# EAGLE library part AS-ITM-00091 (library tinycircuits)
DAC 12BIT SGL W/SPI 8MSOP
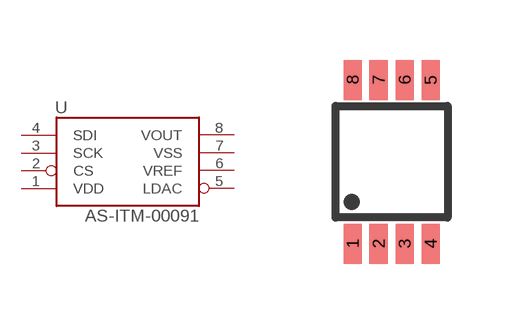
[diagram p36: symbol with the pads of MSOP8; footprint MSOP8]

Designator prefix U

## AS-ITM-00091 (PARTNO: AS-ITM-00091; VALUE: MCP4921-E/MS)  [MSOP8]
1  VDD
2  CS
3  SCK
4  SDI
5  LDAC
6  VREF
7  VSS
8  VOUT

## Footprint MSOP8 (pad centres in mm)
Micro Small Outline Package Grid 0.65mm Source: http://ww1.microchip.com/downloads/en/DeviceDoc/21796H.pdf
smd 0.45 x 1: 1 -0.975,-2.05; 2 -0.325,-2.05; 3 0.325,-2.05; 4 0.975,-2.05; 5 0.975,2.05; 6 0.325,2.05; 7 -0.325,2.05; 8 -0.975,2.05